# Altium schematic symbol library RT0603BRE078KL.SchLib: 1 symbol
Pins are listed as number, name and electrical type; pins without a type are passive.

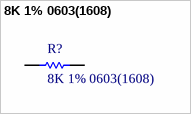
[diagram p0: symbol 8K 1% 0603(1608)]

## 8K 1% 0603(1608)
designator R?
8K 0.1W 1% 0603 (1608 Metric)  SMD; Supplier 1: Mouser; Supplier Part Number 1: 603-RT0603BRE078KL
footprint PCBComponent_1
pins: 1, 2